# EAGLE library part CONNECTOR-AVR-ISP_?_* (library HyTechDevices - Capacitors)
AVR ISP 6-pin Header Reference <https://en.wikipedia.org/wiki/In-system_programming>
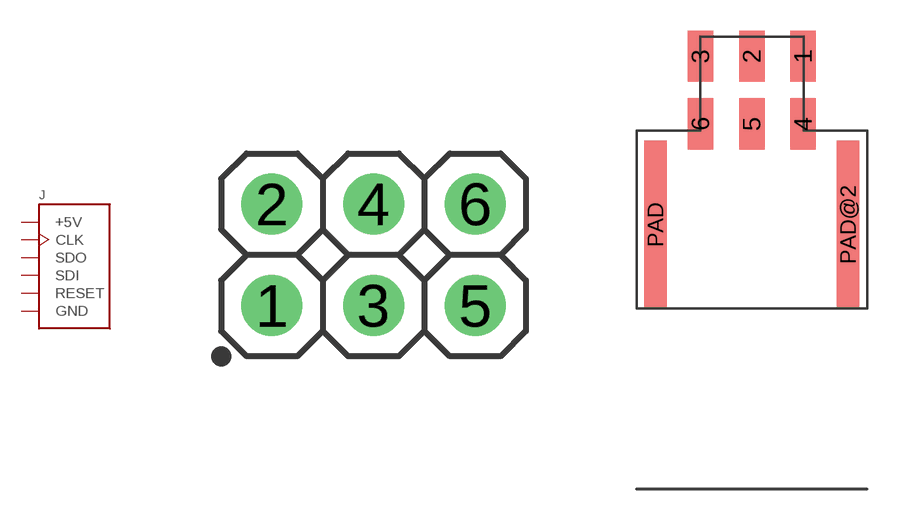
[diagram p1: symbol with the pads of 2X03; footprints 2X03, MOLEX_NANOFIT_SMD_RIGHTANGLE_06]

Designator prefix J

## CONNECTOR-AVR-ISP__ (DKPN: S2011EC-03-ND)  [2X03]
1  SDI  in
2  +5V  pwr
3  CLK
4  SDO  out
5  RESET  out
6  GND  pwr

## CONNECTOR-AVR-ISP_NF_S_RA_BLACK (MANUFACTURER: Molex; MODEL: NF_S_RA_B; MPN: 105405-1304)  [MOLEX_NANOFIT_SMD_RIGHTANGLE_06]
1  SDO  out
2  CLK
3  RESET  out
4  GND  pwr
5  SDI  in
6  +5V  pwr

## Footprint 2X03 (pad centres in mm)
0.1" Pitch Pin Header
drill 1.016: 1 -2.54,-1.27; 2 -2.54,1.27; 3 0,-1.27; 4 0,1.27; 5 2.54,-1.27; 6 2.54,1.27

## Footprint MOLEX_NANOFIT_SMD_RIGHTANGLE_06 (pad centres in mm)
6 Pin Nano-Fit Vertical Header, PCB Mount, Dual Row Part <https://www.molex.com/molex/products/part-detail/pcb_headers/1054051206> Footprint <https://www.molex.com/pdm_docs/sd/1054051206_sd.pdf>
smd 1.24 x 2.5: 1 2.5,1.65; 2 0,1.65; 3 -2.5,1.65; 4 2.5,-1.65; 5 0,-1.65; 6 -2.5,-1.65
smd 1.1 x 8.2: PAD -4.7,-6.58; PAD@2 4.7,-6.58